# Altium schematic symbol library kmilo17pet-LT_OpAmp_LT2000.SchLib: 1710 symbols (part 19 of 75)
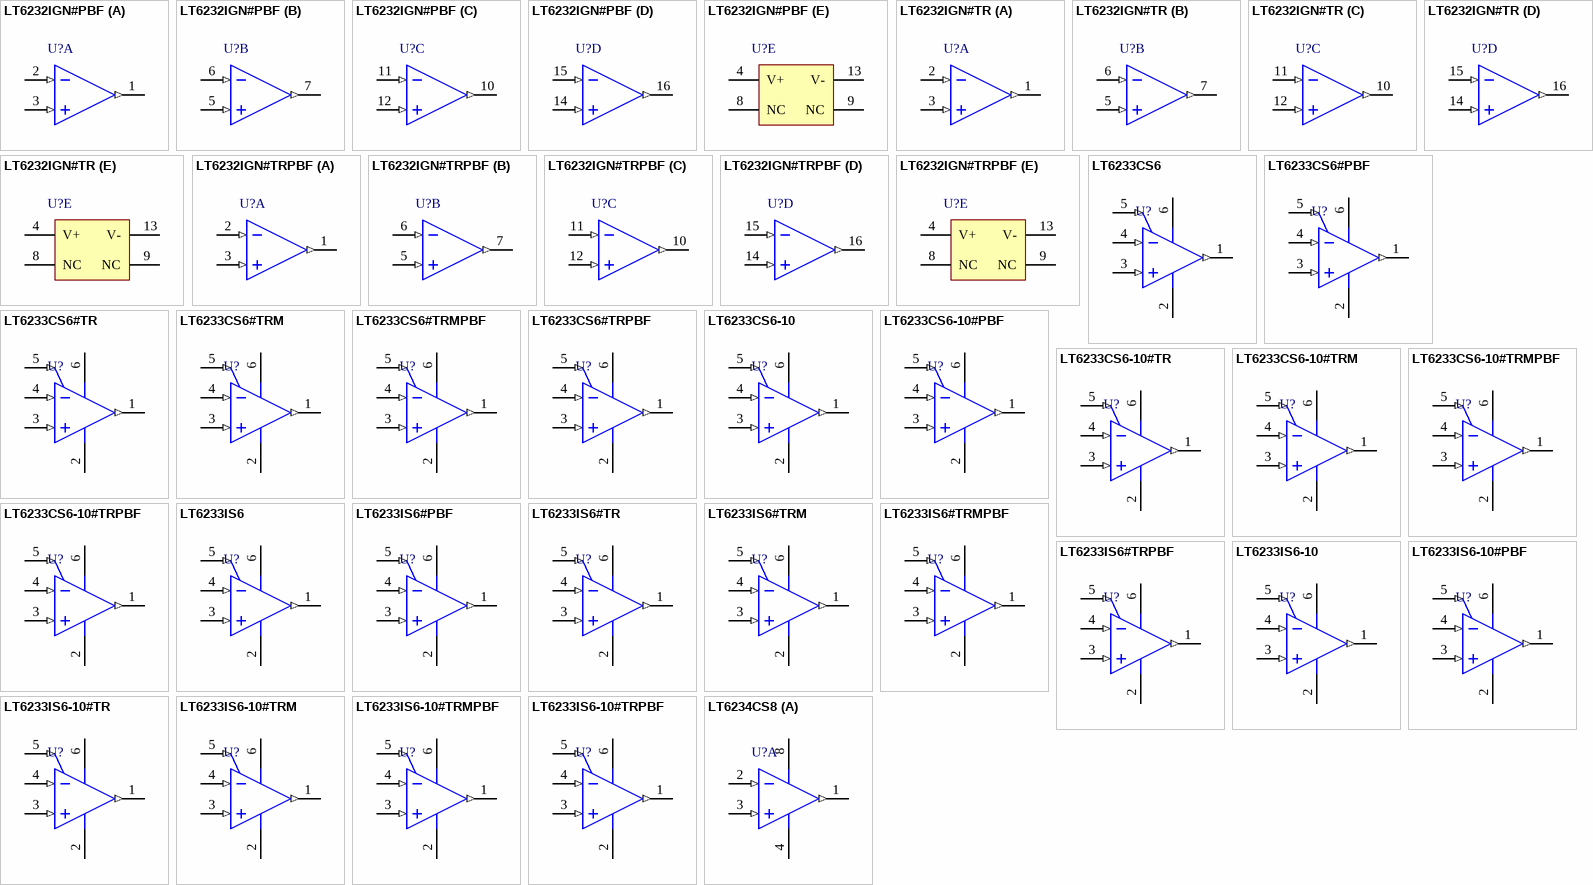
[diagram p98: symbols LT6232IGN#PBF to LT6234CS8]

## LT6233IS6
designator U?
Single Channel, Ultralow Noise, Low Power, High Speed Operational Amplifier, 60 MHz Typical GBW, 15 V/us Typical SR, 3 to 12.6 V, 6-Pin SOT23 (S6-6), Industrial; Linear Technology Part Number: LT6233-10; Manufacturer: Linear Technology; PartNumber: LT6233IS6; Channels (#): 1; GBW (MHz) Typical: 375; Is (mA) Typical: 1.15; SR (V/us) Typical: 80; Vos (mV) Guaranteed: 0.5; Vos (mV) Typical: 0.1; Vs Max (V): 12.6; Vs Min (V): 3; DatasheetVersion: Rev. C; PackageReference: LT-S6-6-TSOT-23; PackageDescription: 6-Pin Plastic TSOT-23, Body 2.9 x 1.63 mm, Pitch 0.95 mm; Type: VFB; Mounting Technology: Surface Mount; Code_JEDEC: MO-193; ComponentLink1Description: Manufacturer URL; ComponentLink1URL: http://www.linear.com/; ComponentLink2Description: Datasheet; ComponentLink2URL: http://cds.linear.com/docs/en/datasheet/623345fc.pdf; ComponentLink3Description: Package Specification; ComponentLink3URL: http://cds.linear.com/docs/en/packaging/SOT_6_05-08-1636.pdf
footprint LT-S6-6-TSOT-23_N (SOT23, 6-Leads, Body 2.90x1.63mm, Pitch 0.95mm, IPC Medium Density)
footprint LT-S6-6-TSOT-23_L (SOT23, 6-Leads, Body 2.90x1.63mm, Pitch 0.95mm, IPC High Density)
footprint LT-S6-6-TSOT-23_M (SOT23, 6-Leads, Body 2.90x1.63mm, Pitch 0.95mm, IPC Low Density)
pins: 1 OUT (out), 2 V- (power), 3 +IN (in), 4 -IN (in), 5 ~{ENABLE} (in), 6 V+ (power)

## LT6233IS6#PBF
designator U?
Single Channel, Ultralow Noise, Low Power, High Speed Operational Amplifier, 60 MHz Typical GBW, 15 V/us Typical SR, 3 to 12.6 V, 6-Pin SOT23 (S6-6), Industrial, Pb-Free; Linear Technology Part Number: LT6233-10; Manufacturer: Linear Technology; PartNumber: LT6233IS6#PBF; Channels (#): 1; GBW (MHz) Typical: 375; Is (mA) Typical: 1.15; SR (V/us) Typical: 80; Vos (mV) Guaranteed: 0.5; Vos (mV) Typical: 0.1; Vs Max (V): 12.6; Vs Min (V): 3; DatasheetVersion: Rev. C; PackageReference: LT-S6-6-TSOT-23; PackageDescription: 6-Pin Plastic TSOT-23, Body 2.9 x 1.63 mm, Pitch 0.95 mm; Supplier 1: Newark; Supplier Part Number 1: 69W6155; RoHS: Pb-Free; Type: VFB; Mounting Technology: Surface Mount; Code_JEDEC: MO-193; ComponentLink1Description: Manufacturer URL; ComponentLink1URL: http://www.linear.com/; ComponentLink2Description: Datasheet; ComponentLink2URL: http://cds.linear.com/docs/en/datasheet/623345fc.pdf; ComponentLink3Description: Package Specification; ComponentLink3URL: http://cds.linear.com/docs/en/packaging/SOT_6_05-08-1636.pdf
footprint LT-S6-6-TSOT-23_N (SOT23, 6-Leads, Body 2.90x1.63mm, Pitch 0.95mm, IPC Medium Density)
footprint LT-S6-6-TSOT-23_L (SOT23, 6-Leads, Body 2.90x1.63mm, Pitch 0.95mm, IPC High Density)
footprint LT-S6-6-TSOT-23_M (SOT23, 6-Leads, Body 2.90x1.63mm, Pitch 0.95mm, IPC Low Density)
pins: 1 OUT (out), 2 V- (power), 3 +IN (in), 4 -IN (in), 5 ~{ENABLE} (in), 6 V+ (power)

## LT6233IS6#TR
designator U?
Single Channel, Ultralow Noise, Low Power, High Speed Operational Amplifier, 60 MHz Typical GBW, 15 V/us Typical SR, 3 to 12.6 V, 6-Pin SOT23 (S6-6), Industrial, Reel; Linear Technology Part Number: LT6233-10; Manufacturer: Linear Technology; PartNumber: LT6233IS6#TR; Channels (#): 1; GBW (MHz) Typical: 375; Is (mA) Typical: 1.15; SR (V/us) Typical: 80; Vos (mV) Guaranteed: 0.5; Vos (mV) Typical: 0.1; Vs Max (V): 12.6; Vs Min (V): 3; DatasheetVersion: Rev. C; PackageReference: LT-S6-6-TSOT-23; PackageDescription: 6-Pin Plastic TSOT-23, Body 2.9 x 1.63 mm, Pitch 0.95 mm; Supplier 1: Digi-Key; Supplier Part Number 1: LT6233IS6#TR-ND; Packing: Reel; Type: VFB; Mounting Technology: Surface Mount; Code_JEDEC: MO-193; ComponentLink1Description: Manufacturer URL; ComponentLink1URL: http://www.linear.com/; ComponentLink2Description: Datasheet; ComponentLink2URL: http://cds.linear.com/docs/en/datasheet/623345fc.pdf; ComponentLink3Description: Package Specification; ComponentLink3URL: http://cds.linear.com/docs/en/packaging/SOT_6_05-08-1636.pdf
footprint LT-S6-6-TSOT-23_N (SOT23, 6-Leads, Body 2.90x1.63mm, Pitch 0.95mm, IPC Medium Density)
footprint LT-S6-6-TSOT-23_L (SOT23, 6-Leads, Body 2.90x1.63mm, Pitch 0.95mm, IPC High Density)
footprint LT-S6-6-TSOT-23_M (SOT23, 6-Leads, Body 2.90x1.63mm, Pitch 0.95mm, IPC Low Density)
pins: 1 OUT (out), 2 V- (power), 3 +IN (in), 4 -IN (in), 5 ~{ENABLE} (in), 6 V+ (power)

## LT6233IS6#TRM
designator U?
Single Channel, Ultralow Noise, Low Power, High Speed Operational Amplifier, 60 MHz Typical GBW, 15 V/us Typical SR, 3 to 12.6 V, 6-Pin SOT23 (S6-6), Industrial, Mini Reel; Linear Technology Part Number: LT6233-10; Manufacturer: Linear Technology; PartNumber: LT6233IS6#TRM; Channels (#): 1; GBW (MHz) Typical: 375; Is (mA) Typical: 1.15; SR (V/us) Typical: 80; Vos (mV) Guaranteed: 0.5; Vos (mV) Typical: 0.1; Vs Max (V): 12.6; Vs Min (V): 3; DatasheetVersion: Rev. C; PackageReference: LT-S6-6-TSOT-23; PackageDescription: 6-Pin Plastic TSOT-23, Body 2.9 x 1.63 mm, Pitch 0.95 mm; Supplier 1: Digi-Key; Supplier Part Number 1: LT6233IS6#TRM-ND; Packing: Mini Reel; Type: VFB; Mounting Technology: Surface Mount; Code_JEDEC: MO-193; ComponentLink1Description: Manufacturer URL; ComponentLink1URL: http://www.linear.com/; ComponentLink2Description: Datasheet; ComponentLink2URL: http://cds.linear.com/docs/en/datasheet/623345fc.pdf; ComponentLink3Description: Package Specification; ComponentLink3URL: http://cds.linear.com/docs/en/packaging/SOT_6_05-08-1636.pdf
footprint LT-S6-6-TSOT-23_N (SOT23, 6-Leads, Body 2.90x1.63mm, Pitch 0.95mm, IPC Medium Density)
footprint LT-S6-6-TSOT-23_L (SOT23, 6-Leads, Body 2.90x1.63mm, Pitch 0.95mm, IPC High Density)
footprint LT-S6-6-TSOT-23_M (SOT23, 6-Leads, Body 2.90x1.63mm, Pitch 0.95mm, IPC Low Density)
pins: 1 OUT (out), 2 V- (power), 3 +IN (in), 4 -IN (in), 5 ~{ENABLE} (in), 6 V+ (power)

## LT6233IS6#TRMPBF
designator U?
Single Channel, Ultralow Noise, Low Power, High Speed Operational Amplifier, 60 MHz Typical GBW, 15 V/us Typical SR, 3 to 12.6 V, 6-Pin SOT23 (S6-6), Industrial, Pb-Free, Mini Reel; Linear Technology Part Number: LT6233-10; Manufacturer: Linear Technology; PartNumber: LT6233IS6#TRMPBF; Channels (#): 1; GBW (MHz) Typical: 375; Is (mA) Typical: 1.15; SR (V/us) Typical: 80; Vos (mV) Guaranteed: 0.5; Vos (mV) Typical: 0.1; Vs Max (V): 12.6; Vs Min (V): 3; DatasheetVersion: Rev. C; PackageReference: LT-S6-6-TSOT-23; PackageDescription: 6-Pin Plastic TSOT-23, Body 2.9 x 1.63 mm, Pitch 0.95 mm; Supplier 1: Digi-Key; Supplier Part Number 1: LT6233IS6#TRMPBFTR-ND; Supplier 2: Digi-Key; Supplier Part Number 2: LT6233IS6#TRMPBFCT-ND; Supplier 3: Digi-Key; Supplier Part Number 3: LT6233IS6#TRMPBFDKR-ND; Supplier 4: Newark; Supplier Part Number 4: 57M9382; Packing: Mini Reel; RoHS: Pb-Free; Type: VFB; Mounting Technology: Surface Mount; Code_JEDEC: MO-193; ComponentLink1Description: Manufacturer URL; ComponentLink1URL: http://www.linear.com/; ComponentLink2Description: Datasheet; ComponentLink2URL: http://cds.linear.com/docs/en/datasheet/623345fc.pdf; ComponentLink3Description: Package Specification; ComponentLink3URL: http://cds.linear.com/docs/en/packaging/SOT_6_05-08-1636.pdf
footprint LT-S6-6-TSOT-23_N (SOT23, 6-Leads, Body 2.90x1.63mm, Pitch 0.95mm, IPC Medium Density)
footprint LT-S6-6-TSOT-23_L (SOT23, 6-Leads, Body 2.90x1.63mm, Pitch 0.95mm, IPC High Density)
footprint LT-S6-6-TSOT-23_M (SOT23, 6-Leads, Body 2.90x1.63mm, Pitch 0.95mm, IPC Low Density)
pins: 1 OUT (out), 2 V- (power), 3 +IN (in), 4 -IN (in), 5 ~{ENABLE} (in), 6 V+ (power)

## LT6233IS6#TRPBF
designator U?
Single Channel, Ultralow Noise, Low Power, High Speed Operational Amplifier, 60 MHz Typical GBW, 15 V/us Typical SR, 3 to 12.6 V, 6-Pin SOT23 (S6-6), Industrial, Pb-Free, Reel; Linear Technology Part Number: LT6233-10; Manufacturer: Linear Technology; PartNumber: LT6233IS6#TRPBF; Channels (#): 1; GBW (MHz) Typical: 375; Is (mA) Typical: 1.15; SR (V/us) Typical: 80; Vos (mV) Guaranteed: 0.5; Vos (mV) Typical: 0.1; Vs Max (V): 12.6; Vs Min (V): 3; DatasheetVersion: Rev. C; PackageReference: LT-S6-6-TSOT-23; PackageDescription: 6-Pin Plastic TSOT-23, Body 2.9 x 1.63 mm, Pitch 0.95 mm; Supplier 1: Digi-Key; Supplier Part Number 1: LT6233IS6#TRPBF-ND; Supplier 2: Newark; Supplier Part Number 2: 57M9383; Packing: Reel; RoHS: Pb-Free; Type: VFB; Mounting Technology: Surface Mount; Code_JEDEC: MO-193; ComponentLink1Description: Manufacturer URL; ComponentLink1URL: http://www.linear.com/; ComponentLink2Description: Datasheet; ComponentLink2URL: http://cds.linear.com/docs/en/datasheet/623345fc.pdf; ComponentLink3Description: Package Specification; ComponentLink3URL: http://cds.linear.com/docs/en/packaging/SOT_6_05-08-1636.pdf
footprint LT-S6-6-TSOT-23_N (SOT23, 6-Leads, Body 2.90x1.63mm, Pitch 0.95mm, IPC Medium Density)
footprint LT-S6-6-TSOT-23_L (SOT23, 6-Leads, Body 2.90x1.63mm, Pitch 0.95mm, IPC High Density)
footprint LT-S6-6-TSOT-23_M (SOT23, 6-Leads, Body 2.90x1.63mm, Pitch 0.95mm, IPC Low Density)
pins: 1 OUT (out), 2 V- (power), 3 +IN (in), 4 -IN (in), 5 ~{ENABLE} (in), 6 V+ (power)

## LT6233IS6-10
designator U?
Single Channel, Ultralow Noise, Low Power, High Speed Operational Amplifier, 375 MHz Typical GBW, 80 V/us Typical SR, 3 to 12.6 V, 6-Pin SOT23 (S6-6), Industrial; Linear Technology Part Number: LT6233-10; Manufacturer: Linear Technology; PartNumber: LT6233IS6-10; Channels (#): 1; GBW (MHz) Typical: 375; Is (mA) Typical: 1.15; SR (V/us) Typical: 80; Vos (mV) Guaranteed: 0.5; Vos (mV) Typical: 0.1; Vs Max (V): 12.6; Vs Min (V): 3; DatasheetVersion: Rev. C; PackageReference: LT-S6-6-TSOT-23; PackageDescription: 6-Pin Plastic TSOT-23, Body 2.9 x 1.63 mm, Pitch 0.95 mm; Type: VFB; Mounting Technology: Surface Mount; Code_JEDEC: MO-193; ComponentLink1Description: Manufacturer URL; ComponentLink1URL: http://www.linear.com/; ComponentLink2Description: Datasheet; ComponentLink2URL: http://cds.linear.com/docs/en/datasheet/623345fc.pdf; ComponentLink3Description: Package Specification; ComponentLink3URL: http://cds.linear.com/docs/en/packaging/SOT_6_05-08-1636.pdf
footprint LT-S6-6-TSOT-23_N (SOT23, 6-Leads, Body 2.90x1.63mm, Pitch 0.95mm, IPC Medium Density)
footprint LT-S6-6-TSOT-23_L (SOT23, 6-Leads, Body 2.90x1.63mm, Pitch 0.95mm, IPC High Density)
footprint LT-S6-6-TSOT-23_M (SOT23, 6-Leads, Body 2.90x1.63mm, Pitch 0.95mm, IPC Low Density)
pins: 1 OUT (out), 2 V- (power), 3 +IN (in), 4 -IN (in), 5 ~{ENABLE} (in), 6 V+ (power)

## LT6233IS6-10#PBF
designator U?
Single Channel, Ultralow Noise, Low Power, High Speed Operational Amplifier, 375 MHz Typical GBW, 80 V/us Typical SR, 3 to 12.6 V, 6-Pin SOT23 (S6-6), Industrial, Pb-Free; Linear Technology Part Number: LT6233-10; Manufacturer: Linear Technology; PartNumber: LT6233IS6-10#PBF; Channels (#): 1; GBW (MHz) Typical: 375; Is (mA) Typical: 1.15; SR (V/us) Typical: 80; Vos (mV) Guaranteed: 0.5; Vos (mV) Typical: 0.1; Vs Max (V): 12.6; Vs Min (V): 3; DatasheetVersion: Rev. C; PackageReference: LT-S6-6-TSOT-23; PackageDescription: 6-Pin Plastic TSOT-23, Body 2.9 x 1.63 mm, Pitch 0.95 mm; Supplier 1: Newark; Supplier Part Number 1: 21T9190; Supplier 2: Newark; Supplier Part Number 2: 69W6154; RoHS: Pb-Free; Type: VFB; Mounting Technology: Surface Mount; Code_JEDEC: MO-193; ComponentLink1Description: Manufacturer URL; ComponentLink1URL: http://www.linear.com/; ComponentLink2Description: Datasheet; ComponentLink2URL: http://cds.linear.com/docs/en/datasheet/623345fc.pdf; ComponentLink3Description: Package Specification; ComponentLink3URL: http://cds.linear.com/docs/en/packaging/SOT_6_05-08-1636.pdf
footprint LT-S6-6-TSOT-23_N (SOT23, 6-Leads, Body 2.90x1.63mm, Pitch 0.95mm, IPC Medium Density)
footprint LT-S6-6-TSOT-23_L (SOT23, 6-Leads, Body 2.90x1.63mm, Pitch 0.95mm, IPC High Density)
footprint LT-S6-6-TSOT-23_M (SOT23, 6-Leads, Body 2.90x1.63mm, Pitch 0.95mm, IPC Low Density)
pins: 1 OUT (out), 2 V- (power), 3 +IN (in), 4 -IN (in), 5 ~{ENABLE} (in), 6 V+ (power)

## LT6233IS6-10#TR
designator U?
Single Channel, Ultralow Noise, Low Power, High Speed Operational Amplifier, 375 MHz Typical GBW, 80 V/us Typical SR, 3 to 12.6 V, 6-Pin SOT23 (S6-6), Industrial, Reel; Linear Technology Part Number: LT6233-10; Manufacturer: Linear Technology; PartNumber: LT6233IS6-10#TR; Channels (#): 1; GBW (MHz) Typical: 375; Is (mA) Typical: 1.15; SR (V/us) Typical: 80; Vos (mV) Guaranteed: 0.5; Vos (mV) Typical: 0.1; Vs Max (V): 12.6; Vs Min (V): 3; DatasheetVersion: Rev. C; PackageReference: LT-S6-6-TSOT-23; PackageDescription: 6-Pin Plastic TSOT-23, Body 2.9 x 1.63 mm, Pitch 0.95 mm; Supplier 1: Digi-Key; Supplier Part Number 1: LT6233IS6-10#TR-ND; Supplier 2: Newark; Supplier Part Number 2: 57M9376; Packing: Reel; Type: VFB; Mounting Technology: Surface Mount; Code_JEDEC: MO-193; ComponentLink1Description: Manufacturer URL; ComponentLink1URL: http://www.linear.com/; ComponentLink2Description: Datasheet; ComponentLink2URL: http://cds.linear.com/docs/en/datasheet/623345fc.pdf; ComponentLink3Description: Package Specification; ComponentLink3URL: http://cds.linear.com/docs/en/packaging/SOT_6_05-08-1636.pdf
footprint LT-S6-6-TSOT-23_N (SOT23, 6-Leads, Body 2.90x1.63mm, Pitch 0.95mm, IPC Medium Density)
footprint LT-S6-6-TSOT-23_L (SOT23, 6-Leads, Body 2.90x1.63mm, Pitch 0.95mm, IPC High Density)
footprint LT-S6-6-TSOT-23_M (SOT23, 6-Leads, Body 2.90x1.63mm, Pitch 0.95mm, IPC Low Density)
pins: 1 OUT (out), 2 V- (power), 3 +IN (in), 4 -IN (in), 5 ~{ENABLE} (in), 6 V+ (power)

## LT6233IS6-10#TRM
designator U?
Single Channel, Ultralow Noise, Low Power, High Speed Operational Amplifier, 375 MHz Typical GBW, 80 V/us Typical SR, 3 to 12.6 V, 6-Pin SOT23 (S6-6), Industrial, Mini Reel; Linear Technology Part Number: LT6233-10; Manufacturer: Linear Technology; PartNumber: LT6233IS6-10#TRM; Channels (#): 1; GBW (MHz) Typical: 375; Is (mA) Typical: 1.15; SR (V/us) Typical: 80; Vos (mV) Guaranteed: 0.5; Vos (mV) Typical: 0.1; Vs Max (V): 12.6; Vs Min (V): 3; DatasheetVersion: Rev. C; PackageReference: LT-S6-6-TSOT-23; PackageDescription: 6-Pin Plastic TSOT-23, Body 2.9 x 1.63 mm, Pitch 0.95 mm; Supplier 1: Digi-Key; Supplier Part Number 1: LT6233IS6-10#TRM-ND; Supplier 2: Newark; Supplier Part Number 2: 57M9377; Packing: Mini Reel; Type: VFB; Mounting Technology: Surface Mount; Code_JEDEC: MO-193; ComponentLink1Description: Manufacturer URL; ComponentLink1URL: http://www.linear.com/; ComponentLink2Description: Datasheet; ComponentLink2URL: http://cds.linear.com/docs/en/datasheet/623345fc.pdf; ComponentLink3Description: Package Specification; ComponentLink3URL: http://cds.linear.com/docs/en/packaging/SOT_6_05-08-1636.pdf
footprint LT-S6-6-TSOT-23_N (SOT23, 6-Leads, Body 2.90x1.63mm, Pitch 0.95mm, IPC Medium Density)
footprint LT-S6-6-TSOT-23_L (SOT23, 6-Leads, Body 2.90x1.63mm, Pitch 0.95mm, IPC High Density)
footprint LT-S6-6-TSOT-23_M (SOT23, 6-Leads, Body 2.90x1.63mm, Pitch 0.95mm, IPC Low Density)
pins: 1 OUT (out), 2 V- (power), 3 +IN (in), 4 -IN (in), 5 ~{ENABLE} (in), 6 V+ (power)

## LT6233IS6-10#TRMPBF
designator U?
Single Channel, Ultralow Noise, Low Power, High Speed Operational Amplifier, 375 MHz Typical GBW, 80 V/us Typical SR, 3 to 12.6 V, 6-Pin SOT23 (S6-6), Industrial, Pb-Free, Mini Reel; Linear Technology Part Number: LT6233-10; Manufacturer: Linear Technology; PartNumber: LT6233IS6-10#TRMPBF; Channels (#): 1; GBW (MHz) Typical: 375; Is (mA) Typical: 1.15; SR (V/us) Typical: 80; Vos (mV) Guaranteed: 0.5; Vos (mV) Typical: 0.1; Vs Max (V): 12.6; Vs Min (V): 3; DatasheetVersion: Rev. C; PackageReference: LT-S6-6-TSOT-23; PackageDescription: 6-Pin Plastic TSOT-23, Body 2.9 x 1.63 mm, Pitch 0.95 mm; Supplier 1: Digi-Key; Supplier Part Number 1: LT6233IS6-10#TRMPBFTR-ND; Supplier 2: Digi-Key; Supplier Part Number 2: LT6233IS6-10#TRMPBFCT-ND; Supplier 3: Digi-Key; Supplier Part Number 3: LT6233IS6-10#TRMPBFDKR-ND; Supplier 4: Newark; Supplier Part Number 4: 57M9378; Packing: Mini Reel; RoHS: Pb-Free; Type: VFB; Mounting Technology: Surface Mount; Code_JEDEC: MO-193; ComponentLink1Description: Manufacturer URL; ComponentLink1URL: http://www.linear.com/; ComponentLink2Description: Datasheet; ComponentLink2URL: http://cds.linear.com/docs/en/datasheet/623345fc.pdf; ComponentLink3Description: Package Specification; ComponentLink3URL: http://cds.linear.com/docs/en/packaging/SOT_6_05-08-1636.pdf
footprint LT-S6-6-TSOT-23_N (SOT23, 6-Leads, Body 2.90x1.63mm, Pitch 0.95mm, IPC Medium Density)
footprint LT-S6-6-TSOT-23_L (SOT23, 6-Leads, Body 2.90x1.63mm, Pitch 0.95mm, IPC High Density)
footprint LT-S6-6-TSOT-23_M (SOT23, 6-Leads, Body 2.90x1.63mm, Pitch 0.95mm, IPC Low Density)
pins: 1 OUT (out), 2 V- (power), 3 +IN (in), 4 -IN (in), 5 ~{ENABLE} (in), 6 V+ (power)

## LT6233IS6-10#TRPBF
designator U?
Single Channel, Ultralow Noise, Low Power, High Speed Operational Amplifier, 375 MHz Typical GBW, 80 V/us Typical SR, 3 to 12.6 V, 6-Pin SOT23 (S6-6), Industrial, Pb-Free, Reel; Linear Technology Part Number: LT6233-10; Manufacturer: Linear Technology; PartNumber: LT6233IS6-10#TRPBF; Channels (#): 1; GBW (MHz) Typical: 375; Is (mA) Typical: 1.15; SR (V/us) Typical: 80; Vos (mV) Guaranteed: 0.5; Vos (mV) Typical: 0.1; Vs Max (V): 12.6; Vs Min (V): 3; DatasheetVersion: Rev. C; PackageReference: LT-S6-6-TSOT-23; PackageDescription: 6-Pin Plastic TSOT-23, Body 2.9 x 1.63 mm, Pitch 0.95 mm; Supplier 1: Digi-Key; Supplier Part Number 1: LT6233IS6-10#TRPBF-ND; Supplier 2: Newark; Supplier Part Number 2: 57M9379; Packing: Reel; RoHS: Pb-Free; Type: VFB; Mounting Technology: Surface Mount; Code_JEDEC: MO-193; ComponentLink1Description: Manufacturer URL; ComponentLink1URL: http://www.linear.com/; ComponentLink2Description: Datasheet; ComponentLink2URL: http://cds.linear.com/docs/en/datasheet/623345fc.pdf; ComponentLink3Description: Package Specification; ComponentLink3URL: http://cds.linear.com/docs/en/packaging/SOT_6_05-08-1636.pdf
footprint LT-S6-6-TSOT-23_N (SOT23, 6-Leads, Body 2.90x1.63mm, Pitch 0.95mm, IPC Medium Density)
footprint LT-S6-6-TSOT-23_L (SOT23, 6-Leads, Body 2.90x1.63mm, Pitch 0.95mm, IPC High Density)
footprint LT-S6-6-TSOT-23_M (SOT23, 6-Leads, Body 2.90x1.63mm, Pitch 0.95mm, IPC Low Density)
pins: 1 OUT (out), 2 V- (power), 3 +IN (in), 4 -IN (in), 5 ~{ENABLE} (in), 6 V+ (power)

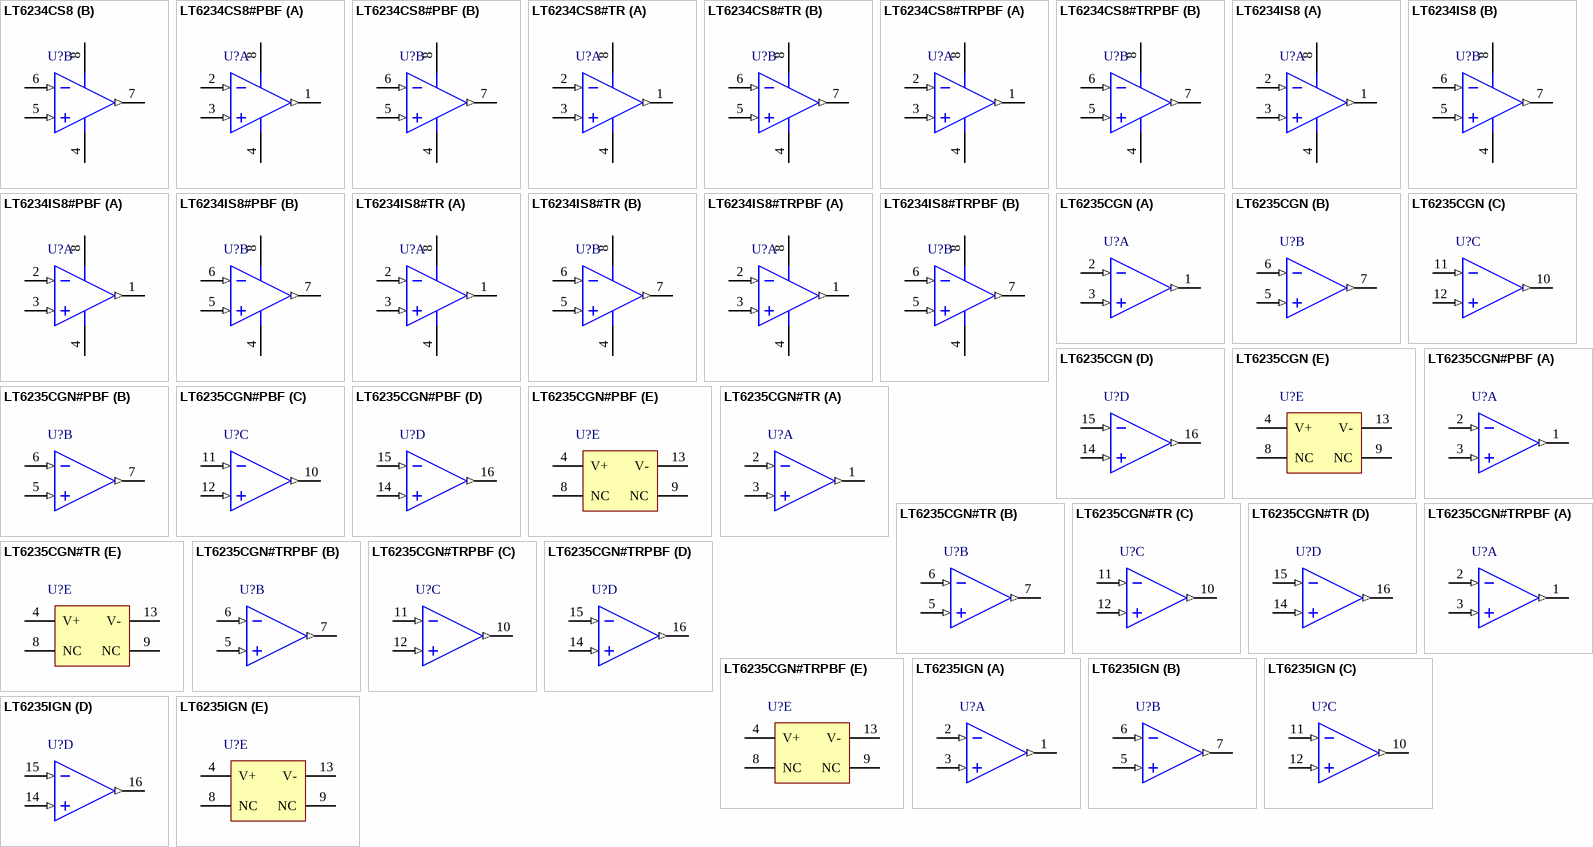
[diagram p29: symbols LT6234CS8 to LT6235IGN]

## LT6234CS8
designator U?
Dual Channel, Ultralow Noise, Low Power, Operational Amplifier, Rail-to-Rail Output, 60 MHz Typical GBW, 17 V/us Typical SR, 3 to 12.6 V, 8-Pin SOIC (S8-8), Commercial; Linear Technology Part Number: LT6234; Manufacturer: Linear Technology; PartNumber: LT6234CS8; Channels (#): 2; GBW (MHz) Typical: 60; Is (mA) Typical: 1.15; SR (V/us) Typical: 17; Vos (mV) Guaranteed: 0.35; Vos (mV) Typical: 0.5; Vs Max (V): 12.6; Vs Min (V): 3; DatasheetVersion: Rev. C; PackageVersion: Rev G; PackageReference: LT-S8-8; PackageDescription: 8-Pin Plastic Small Outline, Body 4.9 x 3.9 mm, Pitch 1.27 mm; Supplier 1: Digi-Key; Supplier Part Number 1: LT6234CS8-ND; Type: VFB; Mounting Technology: Surface Mount; ComponentLink1Description: Manufacturer URL; ComponentLink1URL: http://www.linear.com/; ComponentLink2Description: Datasheet; ComponentLink2URL: http://cds.linear.com/docs/en/datasheet/623345fc.pdf; ComponentLink3Description: Package Specification; ComponentLink3URL: http://cds.linear.com/docs/en/packaging/05081610_G_SO8.pdf
footprint LT-S8-8_N (SOIC, 8-Leads, Body 4.9x3.9mm, Pitch 1.27mm, IPC Medium Density)
footprint LT-S8-8_L (SOIC, 8-Leads, Body 4.9x3.9mm, Pitch 1.27mm, IPC High Density)
footprint LT-S8-8_M (SOIC, 8-Leads, Body 4.9x3.9mm, Pitch 1.27mm, IPC Low Density)
pins on every part: 4 V- (power), 8 V+ (power)
part A pins: 1 OUT A (out), 2 -IN A (in), 3 +IN A (in)
part B pins: 5 +IN B (in), 6 -IN B (in), 7 OUT B (out)

## LT6234CS8#PBF
designator U?
Dual Channel, Ultralow Noise, Low Power, Operational Amplifier, Rail-to-Rail Output, 60 MHz Typical GBW, 17 V/us Typical SR, 3 to 12.6 V, 8-Pin SOIC (S8-8), Commercial, Pb-Free; Linear Technology Part Number: LT6234; Manufacturer: Linear Technology; PartNumber: LT6234CS8#PBF; Channels (#): 2; GBW (MHz) Typical: 60; Is (mA) Typical: 1.15; SR (V/us) Typical: 17; Vos (mV) Guaranteed: 0.35; Vos (mV) Typical: 0.5; Vs Max (V): 12.6; Vs Min (V): 3; DatasheetVersion: Rev. C; PackageVersion: Rev G; PackageReference: LT-S8-8; PackageDescription: 8-Pin Plastic Small Outline, Body 4.9 x 3.9 mm, Pitch 1.27 mm; Supplier 1: Digi-Key; Supplier Part Number 1: LT6234CS8#PBF-ND; Supplier 2: Farnell; Supplier Part Number 2: 1330764; Supplier 3: Newark; Supplier Part Number 3: 57M9389; RoHS: Pb-Free; Type: VFB; Mounting Technology: Surface Mount; ComponentLink1Description: Manufacturer URL; ComponentLink1URL: http://www.linear.com/; ComponentLink2Description: Datasheet; ComponentLink2URL: http://cds.linear.com/docs/en/datasheet/623345fc.pdf; ComponentLink3Description: Package Specification; ComponentLink3URL: http://cds.linear.com/docs/en/packaging/05081610_G_SO8.pdf
footprint LT-S8-8_N (SOIC, 8-Leads, Body 4.9x3.9mm, Pitch 1.27mm, IPC Medium Density)
footprint LT-S8-8_L (SOIC, 8-Leads, Body 4.9x3.9mm, Pitch 1.27mm, IPC High Density)
footprint LT-S8-8_M (SOIC, 8-Leads, Body 4.9x3.9mm, Pitch 1.27mm, IPC Low Density)
pins on every part: 4 V- (power), 8 V+ (power)
part A pins: 1 OUT A (out), 2 -IN A (in), 3 +IN A (in)
part B pins: 5 +IN B (in), 6 -IN B (in), 7 OUT B (out)

## LT6234CS8#TR
designator U?
Dual Channel, Ultralow Noise, Low Power, Operational Amplifier, Rail-to-Rail Output, 60 MHz Typical GBW, 17 V/us Typical SR, 3 to 12.6 V, 8-Pin SOIC (S8-8), Commercial, Reel; Linear Technology Part Number: LT6234; Manufacturer: Linear Technology; PartNumber: LT6234CS8#TR; Channels (#): 2; GBW (MHz) Typical: 60; Is (mA) Typical: 1.15; SR (V/us) Typical: 17; Vos (mV) Guaranteed: 0.35; Vos (mV) Typical: 0.5; Vs Max (V): 12.6; Vs Min (V): 3; DatasheetVersion: Rev. C; PackageVersion: Rev G; PackageReference: LT-S8-8; PackageDescription: 8-Pin Plastic Small Outline, Body 4.9 x 3.9 mm, Pitch 1.27 mm; Supplier 1: Digi-Key; Supplier Part Number 1: LT6234CS8#TR-ND; Packing: Reel; Type: VFB; Mounting Technology: Surface Mount; ComponentLink1Description: Manufacturer URL; ComponentLink1URL: http://www.linear.com/; ComponentLink2Description: Datasheet; ComponentLink2URL: http://cds.linear.com/docs/en/datasheet/623345fc.pdf; ComponentLink3Description: Package Specification; ComponentLink3URL: http://cds.linear.com/docs/en/packaging/05081610_G_SO8.pdf
footprint LT-S8-8_N (SOIC, 8-Leads, Body 4.9x3.9mm, Pitch 1.27mm, IPC Medium Density)
footprint LT-S8-8_L (SOIC, 8-Leads, Body 4.9x3.9mm, Pitch 1.27mm, IPC High Density)
footprint LT-S8-8_M (SOIC, 8-Leads, Body 4.9x3.9mm, Pitch 1.27mm, IPC Low Density)
pins on every part: 4 V- (power), 8 V+ (power)
part A pins: 1 OUT A (out), 2 -IN A (in), 3 +IN A (in)
part B pins: 5 +IN B (in), 6 -IN B (in), 7 OUT B (out)

## LT6234CS8#TRPBF
designator U?
Dual Channel, Ultralow Noise, Low Power, Operational Amplifier, Rail-to-Rail Output, 60 MHz Typical GBW, 17 V/us Typical SR, 3 to 12.6 V, 8-Pin SOIC (S8-8), Commercial, Pb-Free, Reel; Linear Technology Part Number: LT6234; Manufacturer: Linear Technology; PartNumber: LT6234CS8#TRPBF; Channels (#): 2; GBW (MHz) Typical: 60; Is (mA) Typical: 1.15; SR (V/us) Typical: 17; Vos (mV) Guaranteed: 0.35; Vos (mV) Typical: 0.5; Vs Max (V): 12.6; Vs Min (V): 3; DatasheetVersion: Rev. C; PackageVersion: Rev G; PackageReference: LT-S8-8; PackageDescription: 8-Pin Plastic Small Outline, Body 4.9 x 3.9 mm, Pitch 1.27 mm; Supplier 1: Digi-Key; Supplier Part Number 1: LT6234CS8#TRPBF-ND; Packing: Reel; RoHS: Pb-Free; Type: VFB; Mounting Technology: Surface Mount; ComponentLink1Description: Manufacturer URL; ComponentLink1URL: http://www.linear.com/; ComponentLink2Description: Datasheet; ComponentLink2URL: http://cds.linear.com/docs/en/datasheet/623345fc.pdf; ComponentLink3Description: Package Specification; ComponentLink3URL: http://cds.linear.com/docs/en/packaging/05081610_G_SO8.pdf
footprint LT-S8-8_N (SOIC, 8-Leads, Body 4.9x3.9mm, Pitch 1.27mm, IPC Medium Density)
footprint LT-S8-8_L (SOIC, 8-Leads, Body 4.9x3.9mm, Pitch 1.27mm, IPC High Density)
footprint LT-S8-8_M (SOIC, 8-Leads, Body 4.9x3.9mm, Pitch 1.27mm, IPC Low Density)
pins on every part: 4 V- (power), 8 V+ (power)
part A pins: 1 OUT A (out), 2 -IN A (in), 3 +IN A (in)
part B pins: 5 +IN B (in), 6 -IN B (in), 7 OUT B (out)

## LT6234IS8
designator U?
Dual Channel, Ultralow Noise, Low Power, Operational Amplifier, Rail-to-Rail Output, 60 MHz Typical GBW, 17 V/us Typical SR, 3 to 12.6 V, 8-Pin SOIC (S8-8), Industrial; Linear Technology Part Number: LT6234; Manufacturer: Linear Technology; PartNumber: LT6234IS8; Channels (#): 2; GBW (MHz) Typical: 60; Is (mA) Typical: 1.15; SR (V/us) Typical: 17; Vos (mV) Guaranteed: 0.35; Vos (mV) Typical: 0.5; Vs Max (V): 12.6; Vs Min (V): 3; DatasheetVersion: Rev. C; PackageVersion: Rev G; PackageReference: LT-S8-8; PackageDescription: 8-Pin Plastic Small Outline, Body 4.9 x 3.9 mm, Pitch 1.27 mm; Supplier 1: Digi-Key; Supplier Part Number 1: LT6234IS8-ND; Supplier 2: Newark; Supplier Part Number 2: 57M9396; Type: VFB; Mounting Technology: Surface Mount; ComponentLink1Description: Manufacturer URL; ComponentLink1URL: http://www.linear.com/; ComponentLink2Description: Datasheet; ComponentLink2URL: http://cds.linear.com/docs/en/datasheet/623345fc.pdf; ComponentLink3Description: Package Specification; ComponentLink3URL: http://cds.linear.com/docs/en/packaging/05081610_G_SO8.pdf
footprint LT-S8-8_N (SOIC, 8-Leads, Body 4.9x3.9mm, Pitch 1.27mm, IPC Medium Density)
footprint LT-S8-8_L (SOIC, 8-Leads, Body 4.9x3.9mm, Pitch 1.27mm, IPC High Density)
footprint LT-S8-8_M (SOIC, 8-Leads, Body 4.9x3.9mm, Pitch 1.27mm, IPC Low Density)
pins on every part: 4 V- (power), 8 V+ (power)
part A pins: 1 OUT A (out), 2 -IN A (in), 3 +IN A (in)
part B pins: 5 +IN B (in), 6 -IN B (in), 7 OUT B (out)

## LT6234IS8#PBF
designator U?
Dual Channel, Ultralow Noise, Low Power, Operational Amplifier, Rail-to-Rail Output, 60 MHz Typical GBW, 17 V/us Typical SR, 3 to 12.6 V, 8-Pin SOIC (S8-8), Industrial, Pb-Free; Linear Technology Part Number: LT6234; Manufacturer: Linear Technology; PartNumber: LT6234IS8#PBF; Channels (#): 2; GBW (MHz) Typical: 60; Is (mA) Typical: 1.15; SR (V/us) Typical: 17; Vos (mV) Guaranteed: 0.35; Vos (mV) Typical: 0.5; Vs Max (V): 12.6; Vs Min (V): 3; DatasheetVersion: Rev. C; PackageVersion: Rev G; PackageReference: LT-S8-8; PackageDescription: 8-Pin Plastic Small Outline, Body 4.9 x 3.9 mm, Pitch 1.27 mm; Supplier 1: Digi-Key; Supplier Part Number 1: LT6234IS8#PBF-ND; Supplier 2: Newark; Supplier Part Number 2: 57M9397; RoHS: Pb-Free; Type: VFB; Mounting Technology: Surface Mount; ComponentLink1Description: Manufacturer URL; ComponentLink1URL: http://www.linear.com/; ComponentLink2Description: Datasheet; ComponentLink2URL: http://cds.linear.com/docs/en/datasheet/623345fc.pdf; ComponentLink3Description: Package Specification; ComponentLink3URL: http://cds.linear.com/docs/en/packaging/05081610_G_SO8.pdf
footprint LT-S8-8_N (SOIC, 8-Leads, Body 4.9x3.9mm, Pitch 1.27mm, IPC Medium Density)
footprint LT-S8-8_L (SOIC, 8-Leads, Body 4.9x3.9mm, Pitch 1.27mm, IPC High Density)
footprint LT-S8-8_M (SOIC, 8-Leads, Body 4.9x3.9mm, Pitch 1.27mm, IPC Low Density)
pins on every part: 4 V- (power), 8 V+ (power)
part A pins: 1 OUT A (out), 2 -IN A (in), 3 +IN A (in)
part B pins: 5 +IN B (in), 6 -IN B (in), 7 OUT B (out)

## LT6234IS8#TR
designator U?
Dual Channel, Ultralow Noise, Low Power, Operational Amplifier, Rail-to-Rail Output, 60 MHz Typical GBW, 17 V/us Typical SR, 3 to 12.6 V, 8-Pin SOIC (S8-8), Industrial, Reel; Linear Technology Part Number: LT6234; Manufacturer: Linear Technology; PartNumber: LT6234IS8#TR; Channels (#): 2; GBW (MHz) Typical: 60; Is (mA) Typical: 1.15; SR (V/us) Typical: 17; Vos (mV) Guaranteed: 0.35; Vos (mV) Typical: 0.5; Vs Max (V): 12.6; Vs Min (V): 3; DatasheetVersion: Rev. C; PackageVersion: Rev G; PackageReference: LT-S8-8; PackageDescription: 8-Pin Plastic Small Outline, Body 4.9 x 3.9 mm, Pitch 1.27 mm; Supplier 1: Digi-Key; Supplier Part Number 1: LT6234IS8#TR-ND; Packing: Reel; Type: VFB; Mounting Technology: Surface Mount; ComponentLink1Description: Manufacturer URL; ComponentLink1URL: http://www.linear.com/; ComponentLink2Description: Datasheet; ComponentLink2URL: http://cds.linear.com/docs/en/datasheet/623345fc.pdf; ComponentLink3Description: Package Specification; ComponentLink3URL: http://cds.linear.com/docs/en/packaging/05081610_G_SO8.pdf
footprint LT-S8-8_N (SOIC, 8-Leads, Body 4.9x3.9mm, Pitch 1.27mm, IPC Medium Density)
footprint LT-S8-8_L (SOIC, 8-Leads, Body 4.9x3.9mm, Pitch 1.27mm, IPC High Density)
footprint LT-S8-8_M (SOIC, 8-Leads, Body 4.9x3.9mm, Pitch 1.27mm, IPC Low Density)
pins on every part: 4 V- (power), 8 V+ (power)
part A pins: 1 OUT A (out), 2 -IN A (in), 3 +IN A (in)
part B pins: 5 +IN B (in), 6 -IN B (in), 7 OUT B (out)

## LT6234IS8#TRPBF
designator U?
Dual Channel, Ultralow Noise, Low Power, Operational Amplifier, Rail-to-Rail Output, 60 MHz Typical GBW, 17 V/us Typical SR, 3 to 12.6 V, 8-Pin SOIC (S8-8), Industrial, Pb-Free, Reel; Linear Technology Part Number: LT6234; Manufacturer: Linear Technology; PartNumber: LT6234IS8#TRPBF; Channels (#): 2; GBW (MHz) Typical: 60; Is (mA) Typical: 1.15; SR (V/us) Typical: 17; Vos (mV) Guaranteed: 0.35; Vos (mV) Typical: 0.5; Vs Max (V): 12.6; Vs Min (V): 3; DatasheetVersion: Rev. C; PackageVersion: Rev G; PackageReference: LT-S8-8; PackageDescription: 8-Pin Plastic Small Outline, Body 4.9 x 3.9 mm, Pitch 1.27 mm; Supplier 1: Digi-Key; Supplier Part Number 1: LT6234IS8#TRPBF-ND; Supplier 2: Newark; Supplier Part Number 2: 57M9399; Packing: Reel; RoHS: Pb-Free; Type: VFB; Mounting Technology: Surface Mount; ComponentLink1Description: Manufacturer URL; ComponentLink1URL: http://www.linear.com/; ComponentLink2Description: Datasheet; ComponentLink2URL: http://cds.linear.com/docs/en/datasheet/623345fc.pdf; ComponentLink3Description: Package Specification; ComponentLink3URL: http://cds.linear.com/docs/en/packaging/05081610_G_SO8.pdf
footprint LT-S8-8_N (SOIC, 8-Leads, Body 4.9x3.9mm, Pitch 1.27mm, IPC Medium Density)
footprint LT-S8-8_L (SOIC, 8-Leads, Body 4.9x3.9mm, Pitch 1.27mm, IPC High Density)
footprint LT-S8-8_M (SOIC, 8-Leads, Body 4.9x3.9mm, Pitch 1.27mm, IPC Low Density)
pins on every part: 4 V- (power), 8 V+ (power)
part A pins: 1 OUT A (out), 2 -IN A (in), 3 +IN A (in)
part B pins: 5 +IN B (in), 6 -IN B (in), 7 OUT B (out)

## LT6235CGN
designator U?
Quad Channel, Ultralow Noise, Low Power, Operational Amplifier, Rail-to-Rail Output, 60 MHz Typical GBW, 17 V/us Typical SR, 3 to 12.6 V, 16-Pin SOP (GN-16), Commercial; Linear Technology Part Number: LT6235; Manufacturer: Linear Technology; PartNumber: LT6235CGN; Channels (#): 4; GBW (MHz) Typical: 60; Is (mA) Typical: 1.15; SR (V/us) Typical: 17; Vos (mV) Guaranteed: 0.35; Vos (mV) Typical: 0.05; Vs Max (V): 12.6; Vs Min (V): 3; DatasheetVersion: Rev. C; PackageVersion: Rev B; PackageReference: LT-GN-16; PackageDescription: 16-Lead Plastic SSOP, Body 4.9 x 3.9 mm, Pitch 0.635 mm; Supplier 1: Digi-Key; Supplier Part Number 1: LT6235CGN-ND; Type: VFB; Mounting Technology: Surface Mount; ComponentLink1Description: Manufacturer URL; ComponentLink1URL: http://www.linear.com/; ComponentLink2Description: Datasheet; ComponentLink2URL: http://cds.linear.com/docs/en/datasheet/623345fc.pdf; ComponentLink3Description: Package Specification; ComponentLink3URL: http://cds.linear.com/docs/en/packaging/05081641_B_GN16.pdf
footprint LT-GN-16_N (SOP, 16-Leads, Body 4.9x3.9mm, Pitch 0.635mm, IPC Medium Density)
footprint LT-GN-16_L (SOP, 16-Leads, Body 4.9x3.9mm, Pitch 0.635mm, IPC High Density)
footprint LT-GN-16_M (SOP, 16-Leads, Body 4.9x3.9mm, Pitch 0.635mm, IPC Low Density)
part A pins: 1 OUT A (out), 2 IN- A (in), 3 IN+ A (in)
part B pins: 5 IN+ B (in), 6 IN- B (in), 7 OUT B (out)
part C pins: 10 OUT C (out), 11 IN- C (in), 12 IN+ C (in)
part D pins: 14 IN+ D (in), 15 IN- D (in), 16 OUT D (out)
part E pins: 4 V+ (power), 8 NC, 9 NC, 13 V- (power)

## LT6235CGN#PBF
designator U?
Quad Channel, Ultralow Noise, Low Power, Operational Amplifier, Rail-to-Rail Output, 60 MHz Typical GBW, 17 V/us Typical SR, 3 to 12.6 V, 16-Pin SOP (GN-16), Commercial, Pb-Free; Linear Technology Part Number: LT6235; Manufacturer: Linear Technology; PartNumber: LT6235CGN#PBF; Channels (#): 4; GBW (MHz) Typical: 60; Is (mA) Typical: 1.15; SR (V/us) Typical: 17; Vos (mV) Guaranteed: 0.35; Vos (mV) Typical: 0.05; Vs Max (V): 12.6; Vs Min (V): 3; DatasheetVersion: Rev. C; PackageVersion: Rev B; PackageReference: LT-GN-16; PackageDescription: 16-Lead Plastic SSOP, Body 4.9 x 3.9 mm, Pitch 0.635 mm; Supplier 1: Digi-Key; Supplier Part Number 1: LT6235CGN#PBF-ND; Supplier 2: Farnell; Supplier Part Number 2: 2308596; Supplier 3: Newark; Supplier Part Number 3: 57M9401; RoHS: Pb-Free; Type: VFB; Mounting Technology: Surface Mount; ComponentLink1Description: Manufacturer URL; ComponentLink1URL: http://www.linear.com/; ComponentLink2Description: Datasheet; ComponentLink2URL: http://cds.linear.com/docs/en/datasheet/623345fc.pdf; ComponentLink3Description: Package Specification; ComponentLink3URL: http://cds.linear.com/docs/en/packaging/05081641_B_GN16.pdf
footprint LT-GN-16_N (SOP, 16-Leads, Body 4.9x3.9mm, Pitch 0.635mm, IPC Medium Density)
footprint LT-GN-16_L (SOP, 16-Leads, Body 4.9x3.9mm, Pitch 0.635mm, IPC High Density)
footprint LT-GN-16_M (SOP, 16-Leads, Body 4.9x3.9mm, Pitch 0.635mm, IPC Low Density)
part A pins: 1 OUT A (out), 2 IN- A (in), 3 IN+ A (in)
part B pins: 5 IN+ B (in), 6 IN- B (in), 7 OUT B (out)
part C pins: 10 OUT C (out), 11 IN- C (in), 12 IN+ C (in)
part D pins: 14 IN+ D (in), 15 IN- D (in), 16 OUT D (out)
part E pins: 4 V+ (power), 8 NC, 9 NC, 13 V- (power)

## LT6235CGN#TR
designator U?
Quad Channel, Ultralow Noise, Low Power, Operational Amplifier, Rail-to-Rail Output, 60 MHz Typical GBW, 17 V/us Typical SR, 3 to 12.6 V, 16-Pin SOP (GN-16), Commercial, Reel; Linear Technology Part Number: LT6235; Manufacturer: Linear Technology; PartNumber: LT6235CGN#TR; Channels (#): 4; GBW (MHz) Typical: 60; Is (mA) Typical: 1.15; SR (V/us) Typical: 17; Vos (mV) Guaranteed: 0.35; Vos (mV) Typical: 0.05; Vs Max (V): 12.6; Vs Min (V): 3; DatasheetVersion: Rev. C; PackageVersion: Rev B; PackageReference: LT-GN-16; PackageDescription: 16-Lead Plastic SSOP, Body 4.9 x 3.9 mm, Pitch 0.635 mm; Supplier 1: Digi-Key; Supplier Part Number 1: LT6235CGN#TR-ND; Packing: Reel; Type: VFB; Mounting Technology: Surface Mount; ComponentLink1Description: Manufacturer URL; ComponentLink1URL: http://www.linear.com/; ComponentLink2Description: Datasheet; ComponentLink2URL: http://cds.linear.com/docs/en/datasheet/623345fc.pdf; ComponentLink3Description: Package Specification; ComponentLink3URL: http://cds.linear.com/docs/en/packaging/05081641_B_GN16.pdf
footprint LT-GN-16_N (SOP, 16-Leads, Body 4.9x3.9mm, Pitch 0.635mm, IPC Medium Density)
footprint LT-GN-16_L (SOP, 16-Leads, Body 4.9x3.9mm, Pitch 0.635mm, IPC High Density)
footprint LT-GN-16_M (SOP, 16-Leads, Body 4.9x3.9mm, Pitch 0.635mm, IPC Low Density)
part A pins: 1 OUT A (out), 2 IN- A (in), 3 IN+ A (in)
part B pins: 5 IN+ B (in), 6 IN- B (in), 7 OUT B (out)
part C pins: 10 OUT C (out), 11 IN- C (in), 12 IN+ C (in)
part D pins: 14 IN+ D (in), 15 IN- D (in), 16 OUT D (out)
part E pins: 4 V+ (power), 8 NC, 9 NC, 13 V- (power)

## LT6235CGN#TRPBF
designator U?
Quad Channel, Ultralow Noise, Low Power, Operational Amplifier, Rail-to-Rail Output, 60 MHz Typical GBW, 17 V/us Typical SR, 3 to 12.6 V, 16-Pin SOP (GN-16), Commercial, Pb-Free, Reel; Linear Technology Part Number: LT6235; Manufacturer: Linear Technology; PartNumber: LT6235CGN#TRPBF; Channels (#): 4; GBW (MHz) Typical: 60; Is (mA) Typical: 1.15; SR (V/us) Typical: 17; Vos (mV) Guaranteed: 0.35; Vos (mV) Typical: 0.05; Vs Max (V): 12.6; Vs Min (V): 3; DatasheetVersion: Rev. C; PackageVersion: Rev B; PackageReference: LT-GN-16; PackageDescription: 16-Lead Plastic SSOP, Body 4.9 x 3.9 mm, Pitch 0.635 mm; Supplier 1: Digi-Key; Supplier Part Number 1: LT6235CGN#TRPBF-ND; Packing: Reel; RoHS: Pb-Free; Type: VFB; Mounting Technology: Surface Mount; ComponentLink1Description: Manufacturer URL; ComponentLink1URL: http://www.linear.com/; ComponentLink2Description: Datasheet; ComponentLink2URL: http://cds.linear.com/docs/en/datasheet/623345fc.pdf; ComponentLink3Description: Package Specification; ComponentLink3URL: http://cds.linear.com/docs/en/packaging/05081641_B_GN16.pdf
footprint LT-GN-16_N (SOP, 16-Leads, Body 4.9x3.9mm, Pitch 0.635mm, IPC Medium Density)
footprint LT-GN-16_L (SOP, 16-Leads, Body 4.9x3.9mm, Pitch 0.635mm, IPC High Density)
footprint LT-GN-16_M (SOP, 16-Leads, Body 4.9x3.9mm, Pitch 0.635mm, IPC Low Density)
part A pins: 1 OUT A (out), 2 IN- A (in), 3 IN+ A (in)
part B pins: 5 IN+ B (in), 6 IN- B (in), 7 OUT B (out)
part C pins: 10 OUT C (out), 11 IN- C (in), 12 IN+ C (in)
part D pins: 14 IN+ D (in), 15 IN- D (in), 16 OUT D (out)
part E pins: 4 V+ (power), 8 NC, 9 NC, 13 V- (power)

## LT6235IGN
designator U?
Quad Channel, Ultralow Noise, Low Power, Operational Amplifier, Rail-to-Rail Output, 60 MHz Typical GBW, 17 V/us Typical SR, 3 to 12.6 V, 16-Pin SOP (GN-16), Industrial; Linear Technology Part Number: LT6235; Manufacturer: Linear Technology; PartNumber: LT6235IGN; Channels (#): 4; GBW (MHz) Typical: 60; Is (mA) Typical: 1.15; SR (V/us) Typical: 17; Vos (mV) Guaranteed: 0.35; Vos (mV) Typical: 0.05; Vs Max (V): 12.6; Vs Min (V): 3; DatasheetVersion: Rev. C; PackageVersion: Rev B; PackageReference: LT-GN-16; PackageDescription: 16-Lead Plastic SSOP, Body 4.9 x 3.9 mm, Pitch 0.635 mm; Supplier 1: Digi-Key; Supplier Part Number 1: LT6235IGN-ND; Type: VFB; Mounting Technology: Surface Mount; ComponentLink1Description: Manufacturer URL; ComponentLink1URL: http://www.linear.com/; ComponentLink2Description: Datasheet; ComponentLink2URL: http://cds.linear.com/docs/en/datasheet/623345fc.pdf; ComponentLink3Description: Package Specification; ComponentLink3URL: http://cds.linear.com/docs/en/packaging/05081641_B_GN16.pdf
footprint LT-GN-16_N (SOP, 16-Leads, Body 4.9x3.9mm, Pitch 0.635mm, IPC Medium Density)
footprint LT-GN-16_L (SOP, 16-Leads, Body 4.9x3.9mm, Pitch 0.635mm, IPC High Density)
footprint LT-GN-16_M (SOP, 16-Leads, Body 4.9x3.9mm, Pitch 0.635mm, IPC Low Density)
part A pins: 1 OUT A (out), 2 IN- A (in), 3 IN+ A (in)
part B pins: 5 IN+ B (in), 6 IN- B (in), 7 OUT B (out)
part C pins: 10 OUT C (out), 11 IN- C (in), 12 IN+ C (in)
part D pins: 14 IN+ D (in), 15 IN- D (in), 16 OUT D (out)
part E pins: 4 V+ (power), 8 NC, 9 NC, 13 V- (power)

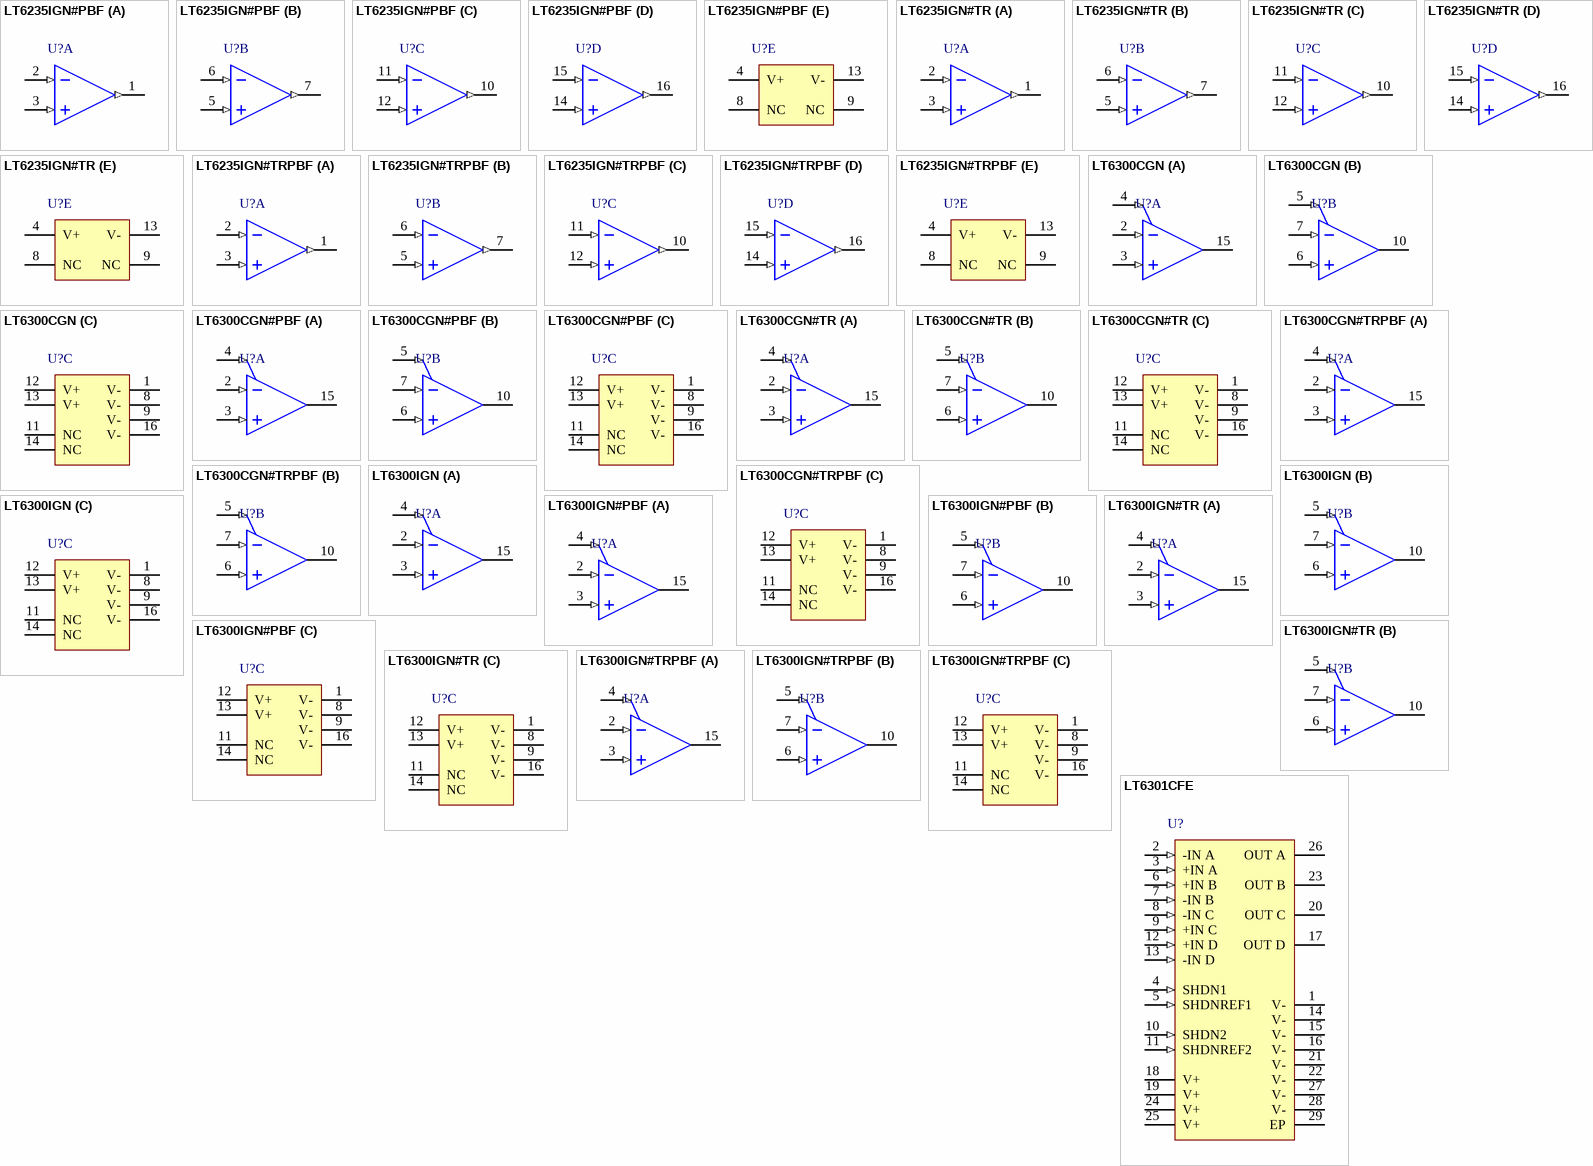
[diagram p30: symbols LT6235IGN#PBF to LT6301CFE]

## LT6235IGN#PBF
designator U?
Quad Channel, Ultralow Noise, Low Power, Operational Amplifier, Rail-to-Rail Output, 60 MHz Typical GBW, 17 V/us Typical SR, 3 to 12.6 V, 16-Pin SOP (GN-16), Industrial, Pb-Free; Linear Technology Part Number: LT6235; Manufacturer: Linear Technology; PartNumber: LT6235IGN#PBF; Channels (#): 4; GBW (MHz) Typical: 60; Is (mA) Typical: 1.15; SR (V/us) Typical: 17; Vos (mV) Guaranteed: 0.35; Vos (mV) Typical: 0.05; Vs Max (V): 12.6; Vs Min (V): 3; DatasheetVersion: Rev. C; PackageVersion: Rev B; PackageReference: LT-GN-16; PackageDescription: 16-Lead Plastic SSOP, Body 4.9 x 3.9 mm, Pitch 0.635 mm; Supplier 1: Digi-Key; Supplier Part Number 1: LT6235IGN#PBF-ND; RoHS: Pb-Free; Type: VFB; Mounting Technology: Surface Mount; ComponentLink1Description: Manufacturer URL; ComponentLink1URL: http://www.linear.com/; ComponentLink2Description: Datasheet; ComponentLink2URL: http://cds.linear.com/docs/en/datasheet/623345fc.pdf; ComponentLink3Description: Package Specification; ComponentLink3URL: http://cds.linear.com/docs/en/packaging/05081641_B_GN16.pdf
footprint LT-GN-16_N (SOP, 16-Leads, Body 4.9x3.9mm, Pitch 0.635mm, IPC Medium Density)
footprint LT-GN-16_L (SOP, 16-Leads, Body 4.9x3.9mm, Pitch 0.635mm, IPC High Density)
footprint LT-GN-16_M (SOP, 16-Leads, Body 4.9x3.9mm, Pitch 0.635mm, IPC Low Density)
part A pins: 1 OUT A (out), 2 IN- A (in), 3 IN+ A (in)
part B pins: 5 IN+ B (in), 6 IN- B (in), 7 OUT B (out)
part C pins: 10 OUT C (out), 11 IN- C (in), 12 IN+ C (in)
part D pins: 14 IN+ D (in), 15 IN- D (in), 16 OUT D (out)
part E pins: 4 V+ (power), 8 NC, 9 NC, 13 V- (power)

## LT6235IGN#TR
designator U?
Quad Channel, Ultralow Noise, Low Power, Operational Amplifier, Rail-to-Rail Output, 60 MHz Typical GBW, 17 V/us Typical SR, 3 to 12.6 V, 16-Pin SOP (GN-16), Industrial, Reel; Linear Technology Part Number: LT6235; Manufacturer: Linear Technology; PartNumber: LT6235IGN#TR; Channels (#): 4; GBW (MHz) Typical: 60; Is (mA) Typical: 1.15; SR (V/us) Typical: 17; Vos (mV) Guaranteed: 0.35; Vos (mV) Typical: 0.05; Vs Max (V): 12.6; Vs Min (V): 3; DatasheetVersion: Rev. C; PackageVersion: Rev B; PackageReference: LT-GN-16; PackageDescription: 16-Lead Plastic SSOP, Body 4.9 x 3.9 mm, Pitch 0.635 mm; Supplier 1: Digi-Key; Supplier Part Number 1: LT6235IGN#TR-ND; Packing: Reel; Type: VFB; Mounting Technology: Surface Mount; ComponentLink1Description: Manufacturer URL; ComponentLink1URL: http://www.linear.com/; ComponentLink2Description: Datasheet; ComponentLink2URL: http://cds.linear.com/docs/en/datasheet/623345fc.pdf; ComponentLink3Description: Package Specification; ComponentLink3URL: http://cds.linear.com/docs/en/packaging/05081641_B_GN16.pdf
footprint LT-GN-16_N (SOP, 16-Leads, Body 4.9x3.9mm, Pitch 0.635mm, IPC Medium Density)
footprint LT-GN-16_L (SOP, 16-Leads, Body 4.9x3.9mm, Pitch 0.635mm, IPC High Density)
footprint LT-GN-16_M (SOP, 16-Leads, Body 4.9x3.9mm, Pitch 0.635mm, IPC Low Density)
part A pins: 1 OUT A (out), 2 IN- A (in), 3 IN+ A (in)
part B pins: 5 IN+ B (in), 6 IN- B (in), 7 OUT B (out)
part C pins: 10 OUT C (out), 11 IN- C (in), 12 IN+ C (in)
part D pins: 14 IN+ D (in), 15 IN- D (in), 16 OUT D (out)
part E pins: 4 V+ (power), 8 NC, 9 NC, 13 V- (power)

## LT6235IGN#TRPBF
designator U?
Quad Channel, Ultralow Noise, Low Power, Operational Amplifier, Rail-to-Rail Output, 60 MHz Typical GBW, 17 V/us Typical SR, 3 to 12.6 V, 16-Pin SOP (GN-16), Industrial, Pb-Free, Reel; Linear Technology Part Number: LT6235; Manufacturer: Linear Technology; PartNumber: LT6235IGN#TRPBF; Channels (#): 4; GBW (MHz) Typical: 60; Is (mA) Typical: 1.15; SR (V/us) Typical: 17; Vos (mV) Guaranteed: 0.35; Vos (mV) Typical: 0.05; Vs Max (V): 12.6; Vs Min (V): 3; DatasheetVersion: Rev. C; PackageVersion: Rev B; PackageReference: LT-GN-16; PackageDescription: 16-Lead Plastic SSOP, Body 4.9 x 3.9 mm, Pitch 0.635 mm; Supplier 1: Digi-Key; Supplier Part Number 1: LT6235IGN#TRPBF-ND; Packing: Reel; RoHS: Pb-Free; Type: VFB; Mounting Technology: Surface Mount; ComponentLink1Description: Manufacturer URL; ComponentLink1URL: http://www.linear.com/; ComponentLink2Description: Datasheet; ComponentLink2URL: http://cds.linear.com/docs/en/datasheet/623345fc.pdf; ComponentLink3Description: Package Specification; ComponentLink3URL: http://cds.linear.com/docs/en/packaging/05081641_B_GN16.pdf
footprint LT-GN-16_N (SOP, 16-Leads, Body 4.9x3.9mm, Pitch 0.635mm, IPC Medium Density)
footprint LT-GN-16_L (SOP, 16-Leads, Body 4.9x3.9mm, Pitch 0.635mm, IPC High Density)
footprint LT-GN-16_M (SOP, 16-Leads, Body 4.9x3.9mm, Pitch 0.635mm, IPC Low Density)
part A pins: 1 OUT A (out), 2 IN- A (in), 3 IN+ A (in)
part B pins: 5 IN+ B (in), 6 IN- B (in), 7 OUT B (out)
part C pins: 10 OUT C (out), 11 IN- C (in), 12 IN+ C (in)
part D pins: 14 IN+ D (in), 15 IN- D (in), 16 OUT D (out)
part E pins: 4 V+ (power), 8 NC, 9 NC, 13 V- (power)

## LT6300CGN
designator U?
Dual Channel, xDSL Driver, 500 mA, 200 MHz Typical GBW, 600 V/us Typical SR, 8 to 27 V, 16-Pin SOP (GN-16), Commercial; Linear Technology Part Number: LT6300; Manufacturer: Linear Technology; PartNumber: LT6300CGN; Channels (#): 2; GBW (MHz) Typical: 200; Is (mA) Typical: 10; SR (V/us) Typical: 600; Vos (mV) Guaranteed: 5; Vos (mV) Typical: 1; Vs Max (V): 27; Vs Min (V): 8; PackageVersion: Rev B; PackageReference: LT-GN-16; PackageDescription: 16-Lead Plastic SSOP, Body 4.9 x 3.9 mm, Pitch 0.635 mm; Supplier 1: Digi-Key; Supplier Part Number 1: LT6300CGN-ND; Type: VFB; Mounting Technology: Surface Mount; ComponentLink1Description: Manufacturer URL; ComponentLink1URL: http://www.linear.com/; ComponentLink2Description: Datasheet; ComponentLink2URL: http://cds.linear.com/docs/en/datasheet/6300f.pdf; ComponentLink3Description: Package Specification; ComponentLink3URL: http://cds.linear.com/docs/en/packaging/05081641_B_GN16.pdf
footprint LT-GN-16_N (SOP, 16-Leads, Body 4.9x3.9mm, Pitch 0.635mm, IPC Medium Density)
footprint LT-GN-16_L (SOP, 16-Leads, Body 4.9x3.9mm, Pitch 0.635mm, IPC High Density)
footprint LT-GN-16_M (SOP, 16-Leads, Body 4.9x3.9mm, Pitch 0.635mm, IPC Low Density)
part A pins: 2 -IN (in), 3 +IN (in), 4 SHDN (in), 15 OUT (hiz)
part B pins: 5 SHDNREF (in), 6 +IN (in), 7 -IN (in), 10 OUT (hiz)
part C pins: 1 V- (power), 8 V- (power), 9 V- (power), 11 NC, 12 V+ (power), 13 V+ (power), 14 NC, 16 V- (power)

## LT6300CGN#PBF
designator U?
Dual Channel, xDSL Driver, 500 mA, 200 MHz Typical GBW, 600 V/us Typical SR, 8 to 27 V, 16-Pin SOP (GN-16), Commercial, Pb-Free; Linear Technology Part Number: LT6300; Manufacturer: Linear Technology; PartNumber: LT6300CGN#PBF; Channels (#): 2; GBW (MHz) Typical: 200; Is (mA) Typical: 10; SR (V/us) Typical: 600; Vos (mV) Guaranteed: 5; Vos (mV) Typical: 1; Vs Max (V): 27; Vs Min (V): 8; PackageVersion: Rev B; PackageReference: LT-GN-16; PackageDescription: 16-Lead Plastic SSOP, Body 4.9 x 3.9 mm, Pitch 0.635 mm; Supplier 1: Digi-Key; Supplier Part Number 1: LT6300CGN#PBF-ND; RoHS: Pb-Free; Type: VFB; Mounting Technology: Surface Mount; ComponentLink1Description: Manufacturer URL; ComponentLink1URL: http://www.linear.com/; ComponentLink2Description: Datasheet; ComponentLink2URL: http://cds.linear.com/docs/en/datasheet/6300f.pdf; ComponentLink3Description: Package Specification; ComponentLink3URL: http://cds.linear.com/docs/en/packaging/05081641_B_GN16.pdf
footprint LT-GN-16_N (SOP, 16-Leads, Body 4.9x3.9mm, Pitch 0.635mm, IPC Medium Density)
footprint LT-GN-16_L (SOP, 16-Leads, Body 4.9x3.9mm, Pitch 0.635mm, IPC High Density)
footprint LT-GN-16_M (SOP, 16-Leads, Body 4.9x3.9mm, Pitch 0.635mm, IPC Low Density)
part A pins: 2 -IN (in), 3 +IN (in), 4 SHDN (in), 15 OUT (hiz)
part B pins: 5 SHDNREF (in), 6 +IN (in), 7 -IN (in), 10 OUT (hiz)
part C pins: 1 V- (power), 8 V- (power), 9 V- (power), 11 NC, 12 V+ (power), 13 V+ (power), 14 NC, 16 V- (power)

## LT6300CGN#TR
designator U?
Dual Channel, xDSL Driver, 500 mA, 200 MHz Typical GBW, 600 V/us Typical SR, 8 to 27 V, 16-Pin SOP (GN-16), Commercial, Reel; Linear Technology Part Number: LT6300; Manufacturer: Linear Technology; PartNumber: LT6300CGN#TR; Channels (#): 2; GBW (MHz) Typical: 200; Is (mA) Typical: 10; SR (V/us) Typical: 600; Vos (mV) Guaranteed: 5; Vos (mV) Typical: 1; Vs Max (V): 27; Vs Min (V): 8; PackageVersion: Rev B; PackageReference: LT-GN-16; PackageDescription: 16-Lead Plastic SSOP, Body 4.9 x 3.9 mm, Pitch 0.635 mm; Supplier 1: Digi-Key; Supplier Part Number 1: LT6300CGNTR-ND; Packing: Reel; Type: VFB; Mounting Technology: Surface Mount; ComponentLink1Description: Manufacturer URL; ComponentLink1URL: http://www.linear.com/; ComponentLink2Description: Datasheet; ComponentLink2URL: http://cds.linear.com/docs/en/datasheet/6300f.pdf; ComponentLink3Description: Package Specification; ComponentLink3URL: http://cds.linear.com/docs/en/packaging/05081641_B_GN16.pdf
footprint LT-GN-16_N (SOP, 16-Leads, Body 4.9x3.9mm, Pitch 0.635mm, IPC Medium Density)
footprint LT-GN-16_L (SOP, 16-Leads, Body 4.9x3.9mm, Pitch 0.635mm, IPC High Density)
footprint LT-GN-16_M (SOP, 16-Leads, Body 4.9x3.9mm, Pitch 0.635mm, IPC Low Density)
part A pins: 2 -IN (in), 3 +IN (in), 4 SHDN (in), 15 OUT (hiz)
part B pins: 5 SHDNREF (in), 6 +IN (in), 7 -IN (in), 10 OUT (hiz)
part C pins: 1 V- (power), 8 V- (power), 9 V- (power), 11 NC, 12 V+ (power), 13 V+ (power), 14 NC, 16 V- (power)

## LT6300CGN#TRPBF
designator U?
Dual Channel, xDSL Driver, 500 mA, 200 MHz Typical GBW, 600 V/us Typical SR, 8 to 27 V, 16-Pin SOP (GN-16), Commercial, Pb-Free, Reel; Linear Technology Part Number: LT6300; Manufacturer: Linear Technology; PartNumber: LT6300CGN#TRPBF; Channels (#): 2; GBW (MHz) Typical: 200; Is (mA) Typical: 10; SR (V/us) Typical: 600; Vos (mV) Guaranteed: 5; Vos (mV) Typical: 1; Vs Max (V): 27; Vs Min (V): 8; PackageVersion: Rev B; PackageReference: LT-GN-16; PackageDescription: 16-Lead Plastic SSOP, Body 4.9 x 3.9 mm, Pitch 0.635 mm; Supplier 1: Digi-Key; Supplier Part Number 1: LT6300CGN#TRPBF-ND; Packing: Reel; RoHS: Pb-Free; Type: VFB; Mounting Technology: Surface Mount; ComponentLink1Description: Manufacturer URL; ComponentLink1URL: http://www.linear.com/; ComponentLink2Description: Datasheet; ComponentLink2URL: http://cds.linear.com/docs/en/datasheet/6300f.pdf; ComponentLink3Description: Package Specification; ComponentLink3URL: http://cds.linear.com/docs/en/packaging/05081641_B_GN16.pdf
footprint LT-GN-16_N (SOP, 16-Leads, Body 4.9x3.9mm, Pitch 0.635mm, IPC Medium Density)
footprint LT-GN-16_L (SOP, 16-Leads, Body 4.9x3.9mm, Pitch 0.635mm, IPC High Density)
footprint LT-GN-16_M (SOP, 16-Leads, Body 4.9x3.9mm, Pitch 0.635mm, IPC Low Density)
part A pins: 2 -IN (in), 3 +IN (in), 4 SHDN (in), 15 OUT (hiz)
part B pins: 5 SHDNREF (in), 6 +IN (in), 7 -IN (in), 10 OUT (hiz)
part C pins: 1 V- (power), 8 V- (power), 9 V- (power), 11 NC, 12 V+ (power), 13 V+ (power), 14 NC, 16 V- (power)